# Altium footprint library C1210X153KDRACTU.PcbLib: 3 footprints
Each footprint in its own frame and in the unit in brackets; x right, y up, seen from the top. Pads: shape width x height; smd on the part's side, far side on the other; paste and mask are expansions set on the pad; w line width, h text height; cw(c..) or ccw(c..) is an arc to the next point about the centre after c.
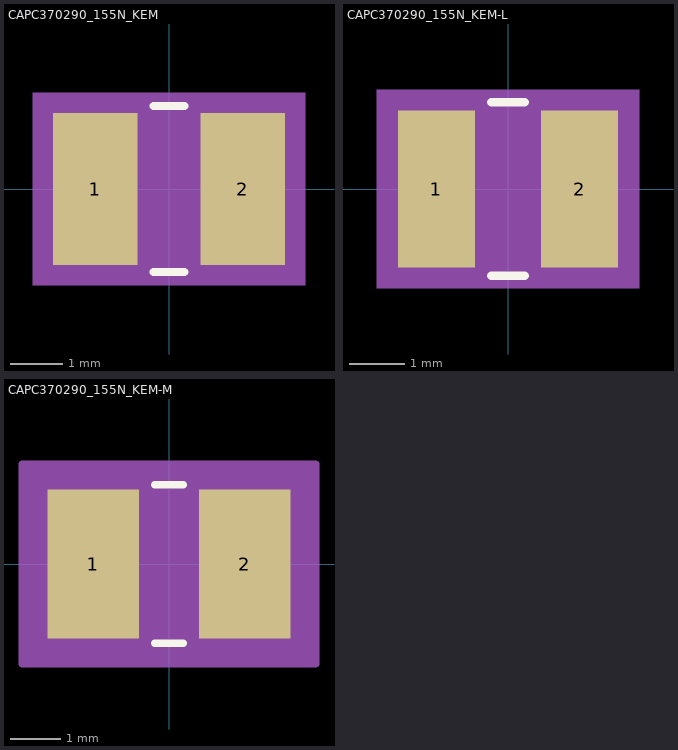
[diagram p0: the footprints below, top view; thin cyan lines are the x and y axes]

## CAPC370290_155N_KEM [mm]
pads (2):
  rect 1.606x2.9 smd paste+0 mask+0: 1(-1.403,0) 2(1.403,0)
Top Overlay:
  lines w0.152: -0.292,-1.577 0.292,-1.577 ; -0.292,1.577 0.292,1.577
Mechanical 5:
  region: 2.587,-1.831 -2.587,-1.831 -2.587,1.831 2.587,1.831
Mechanical 13:
  lines w0.025: -1.85,-1.45 -1.85,1.45 ; -1.85,-1.45 -1,-1.45 -1,1.45 -1.85,1.45 ; -1.85,-1.45 1.85,-1.45 ; -1.85,-1.45 -1.85,1.45 ; -1.85,1.45 1.85,1.45 ; 1.85,-1.45 1,-1.45 1,1.45 1.85,1.45 ; 1.85,-1.45 1.85,1.45 ; 1.85,-1.45 1.85,1.45
Mechanical 15:
  region: 2.46,-1.704 -2.46,-1.704 -2.46,1.704 2.46,1.704
  lines w0.152: -2.46,-1.704 -2.46,1.704 2.46,1.704 2.46,-1.704 -2.46,-1.704
3D body "CAPC370290_155N_KEM.step": height 1.55, standoff 0, extent -1.85,-1.45 1.85,1.45

## CAPC370290_155N_KEM-L [mm]
pads (2):
  rect 1.402x2.849 smd paste+0 mask+0: 1(-1.301,0) 2(1.301,0)
Top Overlay:
  lines w0.152: -0.304,-1.577 0.304,-1.577 ; -0.304,1.577 0.304,1.577
Mechanical 5:
  region: 2.383,-1.806 -2.383,-1.806 -2.383,1.806 2.383,1.806
Mechanical 13:
  lines w0.025: -1.85,-1.45 -1.85,1.45 ; -1.85,-1.45 -1,-1.45 -1,1.45 -1.85,1.45 ; -1.85,-1.45 1.85,-1.45 ; -1.85,-1.45 -1.85,1.45 ; -1.85,1.45 1.85,1.45 ; 1.85,-1.45 1,-1.45 1,1.45 1.85,1.45 ; 1.85,-1.45 1.85,1.45 ; 1.85,-1.45 1.85,1.45
Mechanical 15:
  region: 2.104,-1.526 -2.104,-1.526 -2.104,1.526 2.104,1.526
  lines w0.152: -2.104,-1.526 -2.104,1.526 2.104,1.526 2.104,-1.526 -2.104,-1.526
3D body "CAPC370290_155N_KEM.step": height 1.55, standoff 0, extent -1.85,-1.45 1.85,1.45

## CAPC370290_155N_KEM-M [mm]
pads (2):
  rect 1.809x2.951 smd paste+0 mask+0: 1(-1.504,0) 2(1.504,0)
Top Overlay:
  lines w0.152: -0.283,-1.577 0.283,-1.577 ; -0.283,1.577 0.283,1.577
Mechanical 5:
  region: 2.79,-1.856 -2.79,-1.856 -2.79,1.856 2.79,1.856
Mechanical 13:
  lines w0.025: -1.85,-1.45 -1.85,1.45 ; -1.85,-1.45 -1,-1.45 -1,1.45 -1.85,1.45 ; -1.85,-1.45 1.85,-1.45 ; -1.85,-1.45 -1.85,1.45 ; -1.85,1.45 1.85,1.45 ; 1.85,-1.45 1,-1.45 1,1.45 1.85,1.45 ; 1.85,-1.45 1.85,1.45 ; 1.85,-1.45 1.85,1.45
Mechanical 15:
  region: 2.917,-1.983 -2.917,-1.983 -2.917,1.983 2.917,1.983
  lines w0.152: -2.917,-1.983 -2.917,1.983 2.917,1.983 2.917,-1.983 -2.917,-1.983
3D body "CAPC370290_155N_KEM.step": height 1.55, standoff 0, extent -1.85,-1.45 1.85,1.45